# Altium footprint library lib_Robotronik.PcbLib: 35 footprints (part 3 of 3)
Each footprint in its own frame and in the unit in brackets; x right, y up, seen from the top. Pads: shape width x height; smd on the part's side, far side on the other; paste and mask are expansions set on the pad; w line width, h text height; cw(c..) or ccw(c..) is an arc to the next point about the centre after c.
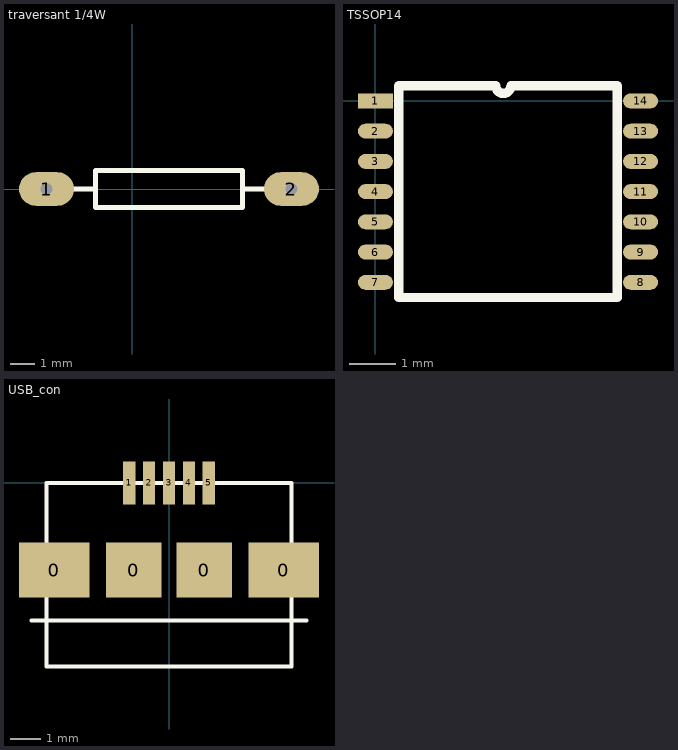
[diagram p2: the footprints below, top view; thin cyan lines are the x and y axes]

## traversant 1/4W [mil]
pads (2):
  oval 90x55 hole 20: 1(-140,0) 2(260,0)
Top Overlay:
  lines w7.87: -99,0 -60,0 ; 219,0 180,0 ; 180,0 180,30 -60,30 -60,-30 180,-30 180,0

## TSSOP14 [mm]
pads (14):
  rect 0.75x0.32 smd: 1(0,0)
  oval 0.75x0.32 smd: 2(0,-0.65) 3(0,-1.3) 4(0,-1.95) 5(0,-2.6) 6(0,-3.25) 7(0,-3.9) 8(5.7,-3.9) 9(5.7,-3.25) 10(5.7,-2.6) 11(5.7,-1.95) 12(5.7,-1.3) 13(5.7,-0.65) 14(5.7,0)
Top Overlay:
  lines w0.2: 0.5,-4.225 5.2,-4.225 5.2,0.325 2.912,0.325 cw(c2.75,0.325) 2.588,0.325 0.5,0.325 0.5,-4.225

## USB_con [mm]
pads (9):
  rect 2.3x1.8 smd: 0(-3.75,-2.85) 0(3.75,-2.85)
  rect 1.8x1.8 smd: 0(-1.15,-2.85) 0(1.15,-2.85)
  rect 0.4x1.4 smd: 1(-1.3,0) 2(-0.65,0) 3(0,0) 4(0.65,0) 5(1.3,0)
Top Overlay:
  lines w0.127: -4.5,-4.5 4.5,-4.5 ; -4,-6 -4,0 -3.5,0 3.5,0 4,0 4,-6 -3.5,-6 -4,-6